# EAGLE library part PGA116 (library OpenMotics)
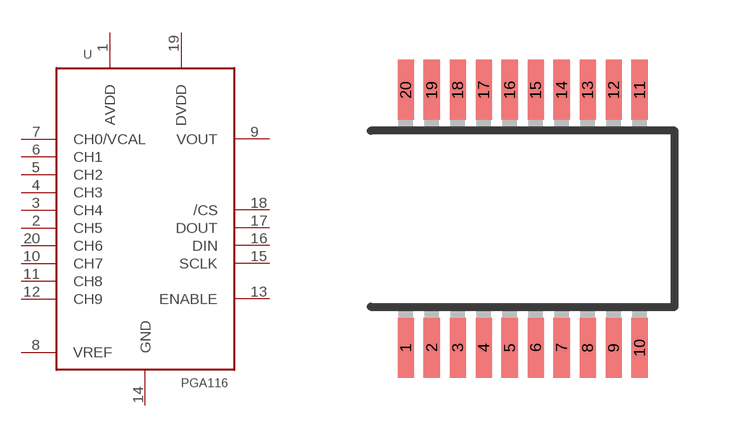
[diagram p14: symbol with the pads of TSSOP20; footprint TSSOP20]

Designator prefix U

## PGA116  [TSSOP20]
1  AVDD
2  CH5
3  CH4
4  CH3
5  CH2
6  CH1
7  CH0/VCAL
8  VREF
9  VOUT
10  CH7
11  CH8
12  CH9
13  ENABLE
14  GND
15  SCLK
16  DIN
17  DOUT
18  /CS
19  DVDD
20  CH6

## Footprint TSSOP20 (pad centres in mm)
smd 0.4 x 1.5: 1 -2.925,-3.225; 2 -2.275,-3.225; 3 -1.625,-3.225; 4 -0.975,-3.225; 5 -0.325,-3.225; 6 0.325,-3.225; 7 0.975,-3.225; 8 1.625,-3.225; 9 2.275,-3.225; 10 2.925,-3.225; 11 2.925,3.225; 12 2.275,3.225; 13 1.625,3.225; 14 0.975,3.225; 15 0.325,3.225; 16 -0.325,3.225; 17 -0.975,3.225; 18 -1.625,3.225; 19 -2.275,3.225; 20 -2.925,3.225